# EAGLE library part PHB_1MM27_2X50_* (library _hhn_con_pinhead_box_1mm27)
Pin Header Box-Type, 1.27mm/0.5"/50mil Pitch, 2x50 Circuits Note: see library description for an important note about THT-version
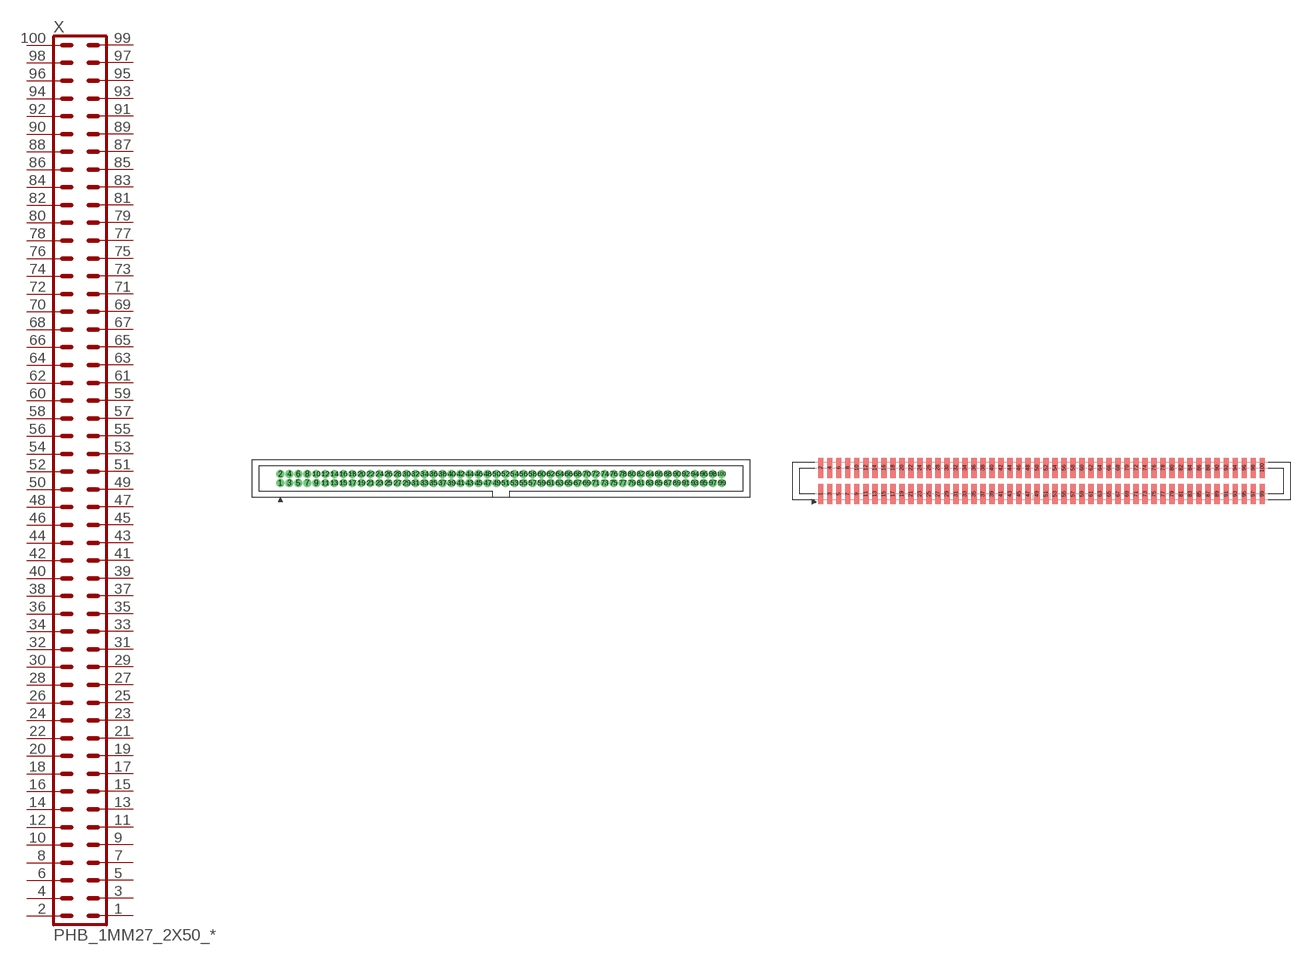
[diagram p1: symbol with the pads of PHB_1MM27_2X50_SNT; footprints PHB_1MM27_2X50_SNT, PHB_1MM27_2X50_SNS]

Designator prefix X

## PHB_1MM27_2X50_SNT  [PHB_1MM27_2X50_SNT]
1  1  pas
2  2  pas
3  3  pas
4  4  pas
5  5  pas
6  6  pas
7  7  pas
8  8  pas
9  9  pas
10  10  pas
11  11  pas
12  12  pas
13  13  pas
14  14  pas
15  15  pas
16  16  pas
17  17  pas
18  18  pas
19  19  pas
20  20  pas
21  21  pas
22  22  pas
23  23  pas
24  24  pas
25  25  pas
26  26  pas
27  27  pas
28  28  pas
29  29  pas
30  30  pas
31  31  pas
32  32  pas
33  33  pas
34  34  pas
35  35  pas
36  36  pas
37  37  pas
38  38  pas
39  39  pas
40  40  pas
41  41  pas
42  42  pas
43  43  pas
44  44  pas
45  45  pas
46  46  pas
47  47  pas
48  48  pas
49  49  pas
50  50  pas
51  51  pas
52  52  pas
53  53  pas
54  54  pas
55  55  pas
56  56  pas
57  57  pas
58  58  pas
59  59  pas
60  60  pas
61  61  pas
62  62  pas
63  63  pas
64  64  pas
65  65  pas
66  66  pas
67  67  pas
68  68  pas
69  69  pas
70  70  pas
71  71  pas
72  72  pas
73  73  pas
74  74  pas
75  75  pas
76  76  pas
77  77  pas
78  78  pas
79  79  pas
80  80  pas
81  81  pas
82  82  pas
83  83  pas
84  84  pas
85  85  pas
86  86  pas
87  87  pas
88  88  pas
89  89  pas
90  90  pas
91  91  pas
92  92  pas
93  93  pas
94  94  pas
95  95  pas
96  96  pas
97  97  pas
98  98  pas
99  99  pas
100  100  pas

## PHB_1MM27_2X50_SNS  [PHB_1MM27_2X50_SNS]
Pads as for PHB_1MM27_2X50_SNT

## Footprint PHB_1MM27_2X50_SNT (pad centres in mm)
Pin Header Box-Type, 1.27mm Pitch, 2x50 circuits, Straight, No Locking, THT Important Note regarding to THT-versions: see description of library
drill 0.65 round: 1 -31.115,-0.635; 2 -31.115,0.635; 3 -29.845,-0.635; 4 -29.845,0.635; 5 -28.575,-0.635; 6 -28.575,0.635; 7 -27.305,-0.635; 8 -27.305,0.635; 9 -26.035,-0.635; 10 -26.035,0.635; 11 -24.765,-0.635; 12 -24.765,0.635; 13 -23.495,-0.635; 14 -23.495,0.635; 15 -22.225,-0.635; 16 -22.225,0.635; 17 -20.955,-0.635; 18 -20.955,0.635; 19 -19.685,-0.635; 20 -19.685,0.635; 21 -18.415,-0.635; 22 -18.415,0.635; 23 -17.145,-0.635; 24 -17.145,0.635; 25 -15.875,-0.635; 26 -15.875,0.635; 27 -14.605,-0.635; 28 -14.605,0.635; 29 -13.335,-0.635; 30 -13.335,0.635; 31 -12.065,-0.635; 32 -12.065,0.635; 33 -10.795,-0.635; 34 -10.795,0.635; 35 -9.525,-0.635; 36 -9.525,0.635; 37 -8.255,-0.635; 38 -8.255,0.635; 39 -6.985,-0.635; 40 -6.985,0.635; 41 -5.715,-0.635; 42 -5.715,0.635; 43 -4.445,-0.635; 44 -4.445,0.635; 45 -3.175,-0.635; 46 -3.175,0.635; 47 -1.905,-0.635; 48 -1.905,0.635; 49 -0.635,-0.635; 50 -0.635,0.635; 51 0.635,-0.635; 52 0.635,0.635; 53 1.905,-0.635; 54 1.905,0.635; 55 3.175,-0.635; 56 3.175,0.635; 57 4.445,-0.635; 58 4.445,0.635; 59 5.715,-0.635; 60 5.715,0.635; 61 6.985,-0.635; 62 6.985,0.635; 63 8.255,-0.635; 64 8.255,0.635; 65 9.525,-0.635; 66 9.525,0.635; 67 10.795,-0.635; 68 10.795,0.635; 69 12.065,-0.635; 70 12.065,0.635; 71 13.335,-0.635; 72 13.335,0.635; 73 14.605,-0.635; 74 14.605,0.635; 75 15.875,-0.635; 76 15.875,0.635; 77 17.145,-0.635; 78 17.145,0.635; 79 18.415,-0.635; 80 18.415,0.635; 81 19.685,-0.635; 82 19.685,0.635; 83 20.955,-0.635; 84 20.955,0.635; 85 22.225,-0.635; 86 22.225,0.635; 87 23.495,-0.635; 88 23.495,0.635; 89 24.765,-0.635; 90 24.765,0.635; 91 26.035,-0.635; 92 26.035,0.635; 93 27.305,-0.635; 94 27.305,0.635; 95 28.575,-0.635; 96 28.575,0.635; 97 29.845,-0.635; 98 29.845,0.635; 99 31.115,-0.635; 100 31.115,0.635

## Footprint PHB_1MM27_2X50_SNS (pad centres in mm)
Pin Header Box-Type, 1.27mm Pitch, 2x50 circuits, Straight, No Locking, SMT
smd 0.76 x 2.8: 1 -31.115,-1.85; 2 -31.115,1.85; 3 -29.845,-1.85; 4 -29.845,1.85; 5 -28.575,-1.85; 6 -28.575,1.85; 7 -27.305,-1.85; 8 -27.305,1.85; 9 -26.035,-1.85; 10 -26.035,1.85; 11 -24.765,-1.85; 12 -24.765,1.85; 13 -23.495,-1.85; 14 -23.495,1.85; 15 -22.225,-1.85; 16 -22.225,1.85; 17 -20.955,-1.85; 18 -20.955,1.85; 19 -19.685,-1.85; 20 -19.685,1.85; 21 -18.415,-1.85; 22 -18.415,1.85; 23 -17.145,-1.85; 24 -17.145,1.85; 25 -15.875,-1.85; 26 -15.875,1.85; 27 -14.605,-1.85; 28 -14.605,1.85; 29 -13.335,-1.85; 30 -13.335,1.85; 31 -12.065,-1.85; 32 -12.065,1.85; 33 -10.795,-1.85; 34 -10.795,1.85; 35 -9.525,-1.85; 36 -9.525,1.85; 37 -8.255,-1.85; 38 -8.255,1.85; 39 -6.985,-1.85; 40 -6.985,1.85; 41 -5.715,-1.85; 42 -5.715,1.85; 43 -4.445,-1.85; 44 -4.445,1.85; 45 -3.175,-1.85; 46 -3.175,1.85; 47 -1.905,-1.85; 48 -1.905,1.85; 49 -0.635,-1.85; 50 -0.635,1.85; 51 0.635,-1.85; 52 0.635,1.85; 53 1.905,-1.85; 54 1.905,1.85; 55 3.175,-1.85; 56 3.175,1.85; 57 4.445,-1.85; 58 4.445,1.85; 59 5.715,-1.85; 60 5.715,1.85; 61 6.985,-1.85; 62 6.985,1.85; 63 8.255,-1.85; 64 8.255,1.85; 65 9.525,-1.85; 66 9.525,1.85; 67 10.795,-1.85; 68 10.795,1.85; 69 12.065,-1.85; 70 12.065,1.85; 71 13.335,-1.85; 72 13.335,1.85; 73 14.605,-1.85; 74 14.605,1.85; 75 15.875,-1.85; 76 15.875,1.85; 77 17.145,-1.85; 78 17.145,1.85; 79 18.415,-1.85; 80 18.415,1.85; 81 19.685,-1.85; 82 19.685,1.85; 83 20.955,-1.85; 84 20.955,1.85; 85 22.225,-1.85; 86 22.225,1.85; 87 23.495,-1.85; 88 23.495,1.85; 89 24.765,-1.85; 90 24.765,1.85; 91 26.035,-1.85; 92 26.035,1.85; 93 27.305,-1.85; 94 27.305,1.85; 95 28.575,-1.85; 96 28.575,1.85; 97 29.845,-1.85; 98 29.845,1.85; 99 31.115,-1.85; 100 31.115,1.85